# Altium footprint library FM_own_parts.PcbLib: 9 footprints
Each footprint in its own frame and in the unit in brackets; x right, y up, seen from the top. Pads: shape width x height; smd on the part's side, far side on the other; paste and mask are expansions set on the pad; w line width, h text height; cw(c..) or ccw(c..) is an arc to the next point about the centre after c.
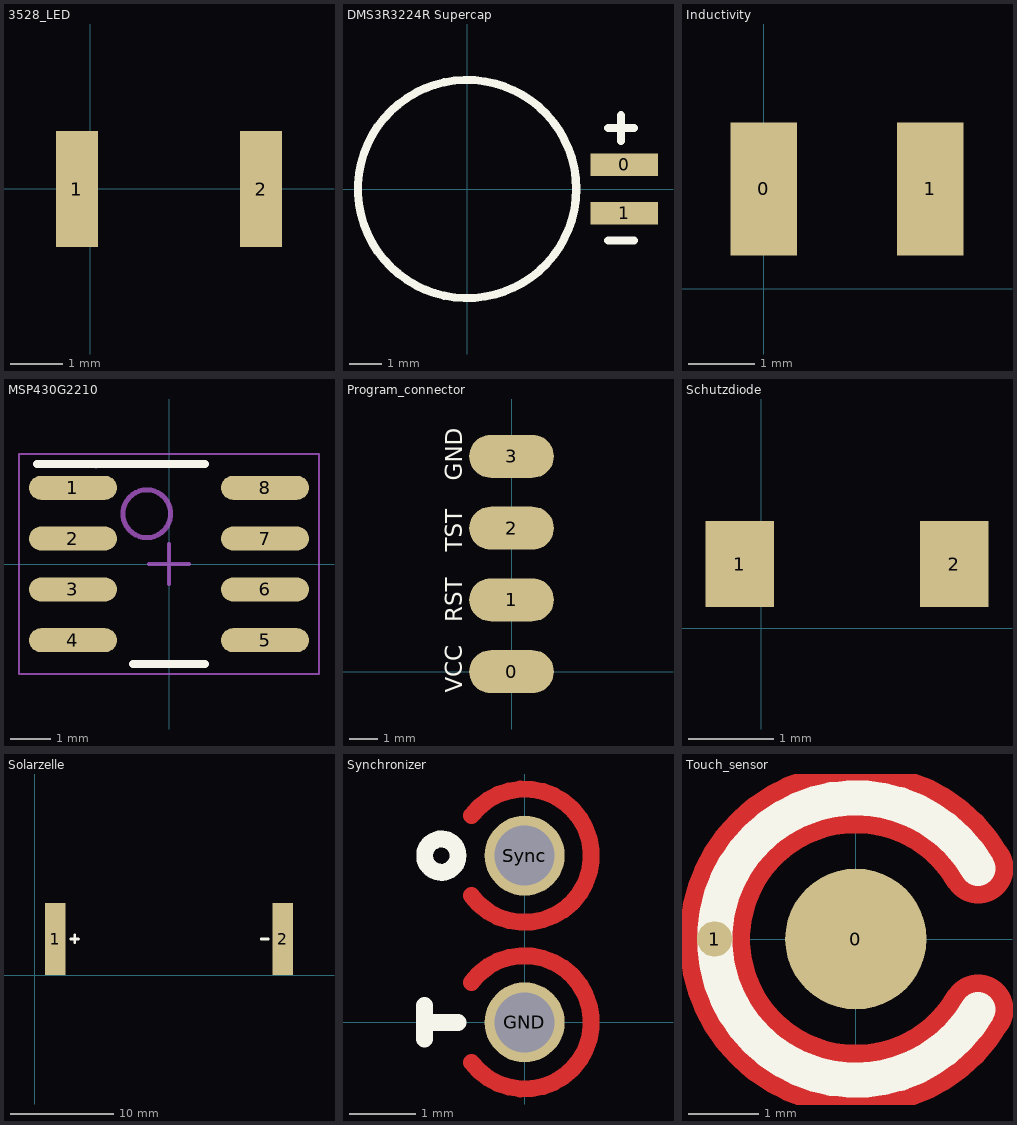
[diagram p0: the footprints below, top view; thin cyan lines are the x and y axes]

## 3528_LED [mm]
pads (2):
  rect 0.8x2.2 smd: 1(-0.25,0) 2(3.25,0)
3D body: height 1, standoff 0, extent -0.25,-1.25 3.25,1.25

## DMS3R3224R Supercap [mm]
pads (2):
  rect 2.1x0.7 smd: 0(4.9,0.75) 1(4.9,-0.75)
Top Overlay:
  circle w0.254: c0,0 r3.401
  lines w0.254: 4.4,-1.6 5.2,-1.6 ; 4.4,1.9 5.2,1.9 ; 4.8,1.5 4.8,2.3 4.8,1.9
3D body: height 0.3, standoff 0, extent 2.7,-1 5.6,-0.5
3D body: height 0.3, standoff 0, extent 2.7,0.5 5.6,1
3D body: height 0.25, standoff 0, extent 0,0 0,0
3D body: height 1.8, standoff 0, extent -3.4,-3.4 3.4,3.4

## Inductivity [mm]
pads (2):
  rect 1x2 smd: 0(0,1.5) 1(2.5,1.5)
3D body: height 1, standoff 0, extent -0.25,0 2.75,3

## MSP430G2210 [mm] "SOIC, 8-Leads, Body 4.9x3.9mm, Pitch 1.27mm, IPC Medium Density"
height 1.75
pads (8):
  oval 2.2x0.6 smd: 1(-2.4,1.905) 2(-2.4,0.635) 3(-2.4,-0.635) 4(-2.4,-1.905) 5(2.4,-1.905) 6(2.4,-0.635) 7(2.4,0.635) 8(2.4,1.905)
Top Overlay:
  lines w0.2: -3.3,2.5 0.9,2.5 ; -0.9,-2.5 0.9,-2.5
Mechanical 5:
  lines w0.127: -1.826,2.45 -1.825,2.45 ; -0.555,0.659 cw(c-0.555,1.256) -0.555,1.853 cw(c-0.555,1.256) -0.555,0.659
Mechanical 15:
  lines w0.05: -3.75,-2.75 -3.75,2.75 3.75,2.75 3.75,-2.75 -3.75,-2.75
  lines w0.1: -0.5,0 0.5,0 ; 0,-0.5 0,0.5
3D body "SOIC-8akaD0008AakaM08A.stp": height 1.63, standoff 0, extent -3,-2.45 3,2.45

## Program_connector [mm]
pads (4):
  oval 3x1.524 smd: 0(0,0) 1(0,2.54) 2(0,5.08) 3(0,7.62)
Top Overlay:
  text "VCC" at -1.75,-0.75 h0.6
  text "RST" at -1.75,1.75 h0.6
  text "TST" at -1.75,4.25 h0.6
  text "GND" at -1.75,6.75 h0.6

## Schutzdiode [mm]
pads (2):
  rect 0.8x1 smd: 1(-0.25,0.75) 2(2.25,0.75)
3D body: height 1.15, standoff 0, extent 0,0 2,1.5

## Solarzelle [mm]
height 1.6
pads (2):
  rect 2x7 smd: 1(2,3.5) 2(24,3.5)
Top Overlay:
  lines w0.254: 3.5,3.5 4.25,3.5 ; 3.875,3.125 3.875,3.5 3.875,3.9 ; 21.9,3.5 22.6,3.5
3D body: height 1.6, standoff 0, extent 2,0 24,7

## Synchronizer [mm]
pads (2):
  round 1.2 hole 0.9: GND(0,0) Sync(0,2.5)
Top Layer:
  lines w0.254: -0.8,-0.6 ccw(c0,0) -0.8,0.6 ; -0.8,1.9 ccw(c0,2.5) -0.8,3.1
Top Overlay:
  circle w0.254: c-1.25,2.5 r0.25
  lines w0.254: -1.5,-0.25 -1.5,0.25 -1.5,0 -1,0

## Touch_sensor [mm]
pads (2):
  round 2 smd paste+0 mask+0: 0(0,0)
  round 0.5 smd paste+0 mask+0: 1(-2,0)
Top Layer:
  lines w1: 1.732,-1 cw(c0,0) 1.732,1
Top Overlay:
  circle w1: c0,0 r0.25
  lines w0.5: 1.732,-1 cw(c0,0) 1.732,1